# EAGLE library part BM24-20DP/2-0.35V(53) (library NM_Visual_Cortex_12-10-18)
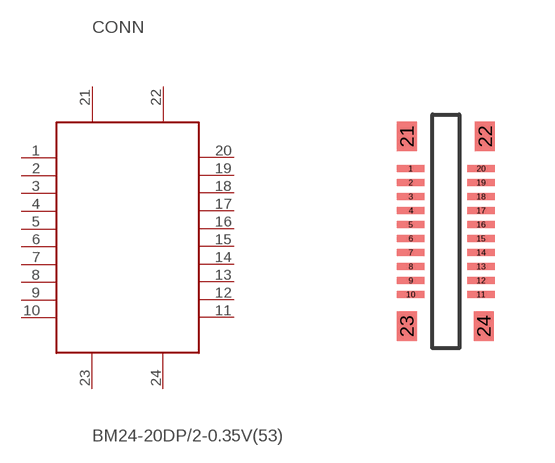
[diagram p14: symbol with the pads of BM24-20DP/2-0.35V(53); footprint BM24-20DP/2-0.35V(53)]

Designator prefix CONN

## BM24-20DP/2-0.35V(53)  [BM24-20DP/2-0.35V(53)]
1  P$1
2  P$2
3  P$3
4  P$4
5  P$5
6  P$6
7  P$7
8  P$8
9  P$9
10  P$10
11  P$11
12  P$12
13  P$13
14  P$14
15  P$15
16  P$16
17  P$17
18  P$18
19  P$19
20  P$20
21  P$21
22  P$22
23  P$23
24  P$24

## Footprint BM24-20DP/2-0.35V(53) (pad centres in mm)
smd 0.69 x 0.18: 1 -0.88,1.57; 2 -0.88,1.22; 3 -0.88,0.87; 4 -0.88,0.52; 5 -0.88,0.17; 6 -0.88,-0.18; 7 -0.88,-0.53; 8 -0.88,-0.88; 9 -0.88,-1.23; 10 -0.88,-1.58; 11 0.88,-1.58; 12 0.88,-1.23; 13 0.88,-0.88; 14 0.88,-0.53; 15 0.88,-0.18; 16 0.88,0.17; 17 0.88,0.52; 18 0.88,0.87; 19 0.88,1.22; 20 0.88,1.57
smd 0.5 x 0.73: 21 -0.98,2.375; 22 0.98,2.375; 23 -0.98,-2.375; 24 0.945,-2.375